# Altium footprint library Footprint_SMT_Diodes.PcbLib: 2 footprints
Each footprint in its own frame and in the unit in brackets; x right, y up, seen from the top. Pads: shape width x height; smd on the part's side, far side on the other; paste and mask are expansions set on the pad; w line width, h text height; cw(c..) or ccw(c..) is an arc to the next point about the centre after c.
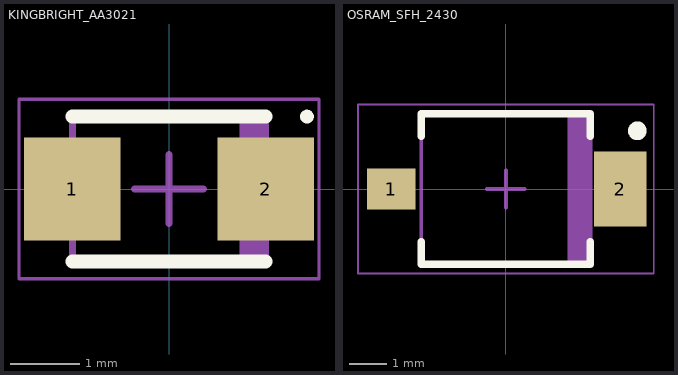
[diagram p0: the footprints below, top view; thin cyan lines are the x and y axes]

## KINGBRIGHT_AA3021 [mm] "Kingbright AA3021 Series, 2-Leads, Body 2.70x2.00mm, IPC Medium Density"
height 1.3
pads (2):
  rect 1.4x1.5 smd: 1(-1.4,0) 2(1.4,0)
Top Overlay:
  circle w0.1: c2,1.05 r0.05
  lines w0.2: -1.4,-1.05 1.4,-1.05 ; -1.4,1.05 1.4,1.05
Mechanical 13:
  rectangle: 1.023,-1.05 1.4,1.05
  lines w0.1: -1.4,-1.05 1.4,-1.05 1.4,1.05 -1.4,1.05 -1.4,-1.05
Mechanical 15:
  lines w0.05: -2.175,-1.3 2.175,-1.3 2.175,1.3 -2.175,1.3 -2.175,-1.3
  lines w0.1: -0.5,0 0.5,0 ; 0,-0.5 0,0.5
3D body "KINGBRIGHT_AA3021.step": height 1.3, standoff 0, extent -1.62,-1.05 1.62,1.05

## OSRAM_SFH_2430 [mm] "OSRAM_SFH_2430 Photonic Diode, 2-Leads, Body 4.40x3.85mm"
height 1.3
pads (2):
  rect 1.3x1.1 smd: 1(-3.05,0)
  rect 1.4x2 smd: 2(3.05,0)
Top Overlay:
  circle w0.25: c3.5,1.55 r0.125
  lines w0.2: -2.25,-1.4 -2.25,-2 2.25,-2 2.25,-1.4 ; -2.25,1.4 -2.25,2 2.25,2 2.25,1.4
Mechanical 13:
  rectangle: 1.645,-2 2.25,2
  lines w0.1: -2.25,-2 2.25,-2 2.25,2 -2.25,2 -2.25,-2
Mechanical 15:
  lines w0.05: -3.937,-2.25 3.937,-2.25 3.937,2.25 -3.937,2.25 -3.937,-2.25
  lines w0.1: -0.5,0 0.5,0 ; 0,-0.5 0,0.5
3D body "OSRAM_SFH_2430.step": height 1.3, standoff 0, extent -2.47,-2 2.47,2